# Altium schematic symbol library ctrl_V1.0.SCHLIB: 49 symbols
Pins are listed as number, name and electrical type; pins without a type are passive.

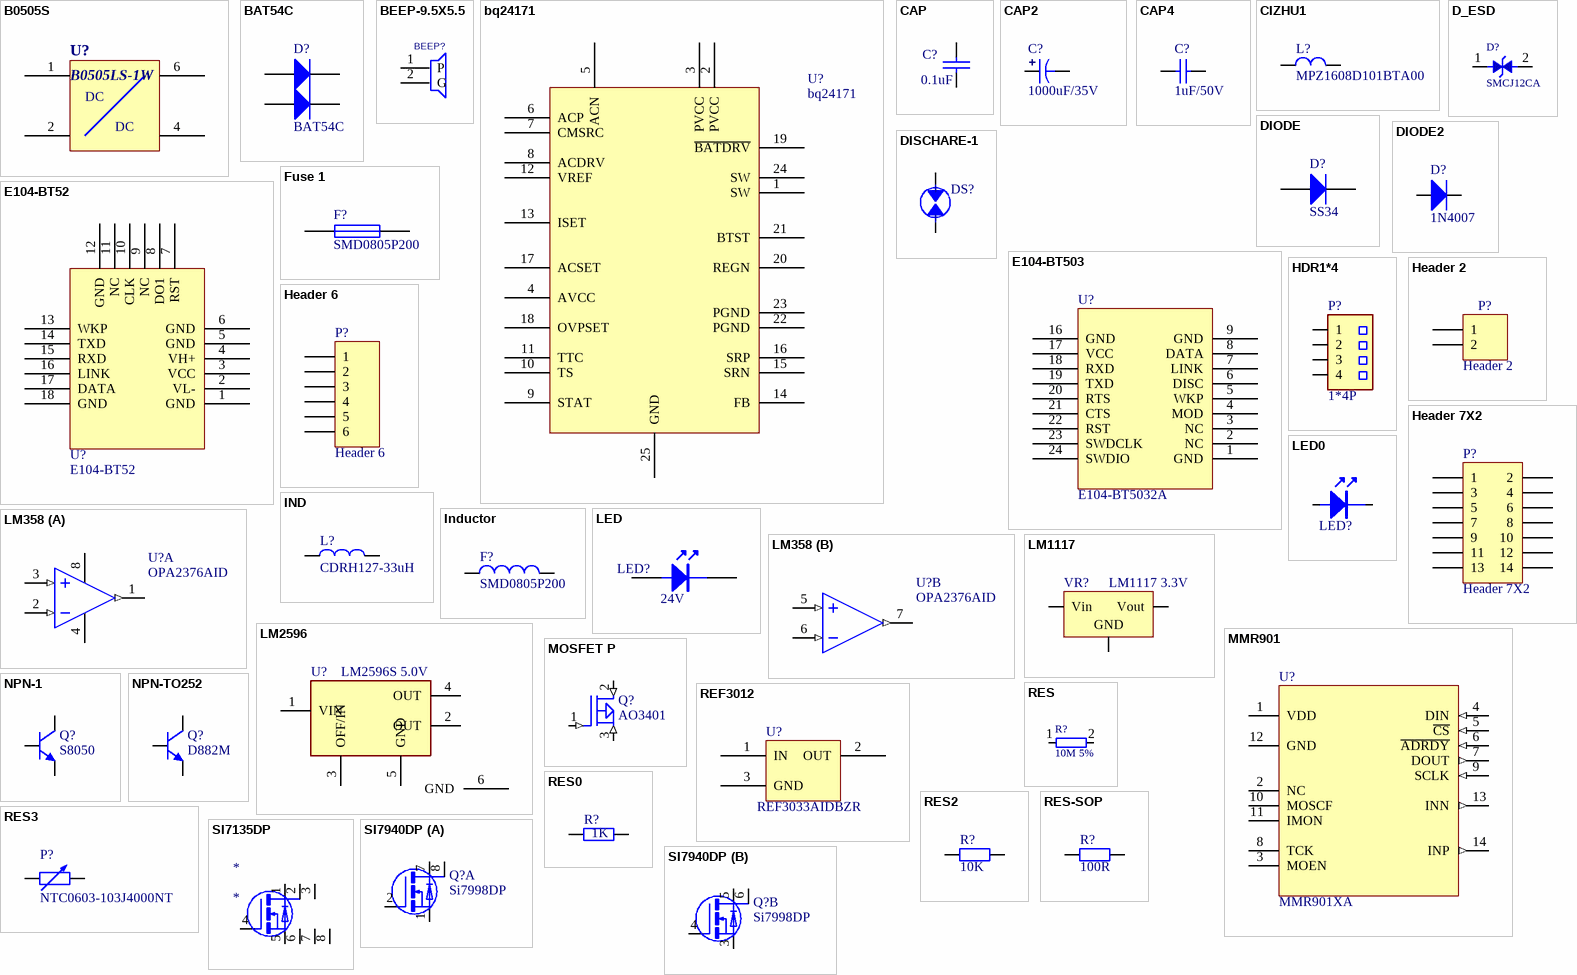
[diagram p0: symbols B0505S to SI7940DP]

## B0505S
designator U?, comment B0505LS-1W
footprint HKSXXXXB-1W
pins: 1, 2, 4, 6
text: DC

## BAT54C
designator D?
footprint SOT23-3
pins: 1 A, 2 A, 3 K, 3 K

## BEEP-9.5X5.5
designator BEEP?  (value not drawn)
PCB DECAL: BEEP-9.5X5.5
footprint BEEP-9.5X5.5 (Footprint not found)
pins: 1 P, 2 G

## bq24171
designator U?
footprint bq24171
pins: 1 SW, 2 PVCC, 3 PVCC, 4 AVCC, 5 ACN, 6 ACP, 7 CMSRC, 8 ACDRV, 9 STAT, 10 TS, 11 TTC, 12 VREF, 13 ISET, 14 FB, 15 SRN, 16 SRP, 17 ACSET, 18 OVPSET, 19 ~{BATDRV}, 20 REGN, 21 BTST, 22 PGND, 23 PGND, 24 SW, 25 GND

## CAP
designator C?, comment 0.1uF
Capacitor
footprint 0603C
pins: 1, 2

## CAP2
designator C?, comment 1000uF/35V
电解电容
footprint 10*16
footprint RB-.1/.3 (47uF 100uF 220uF 470uF)
footprint RB-.2/.4 (1000uF)
footprint RB-.3/.6
footprint SMD-3528-21 (Molded Capacitor, 2-Leads, Body 3.5x2.2mm, IPC Medium Density)
footprint SMD-7343-31 (Molded Capacitor, 2-Leads, Body 7.2x4.2mm, IPC Medium Density)
footprint SMD-3216-10 (钽电容 0805大小 耐压10V 最大10uF)
pins: 1, 2

## CAP4
designator C?, comment 1uF/50V
贴片电容 20%
footprint SMD-0805C (0805贴片电容)
footprint SMD-0603C
pins: 1, 2

## CIZHU1
designator L?, comment MPZ1608D101BTA00
磁珠电感 100R 100MHz
footprint SMD-0805 (贴片电阻)
footprint SMD-0603
pins: 1, 2

## D_ESD
designator D?, comment SMCJ12CA
footprint SMC (DO-214-AB/SMC; 2 C-Bend Leads; Body 7.9 x 5.9 mm, inc. leads (LxW))
pins: 1, 2

## DIODE
designator D?, comment SS34
footprint SMA
footprint LL-34
pins: 1 A, 2 K

## DIODE2
designator D?, comment 1N4007
二极管 M7
footprint SOD-123
footprint DO-214-AC
pins: 1 A, 2 K

## DISCHARE-1
designator DS?, comment UN1812-90CSMD  (value not drawn)
气体放电管 90V
footprint SMD-1812 (贴片电阻)
pins: 1, 2

## E104-BT52
designator U?
footprint E104-BT52 (Footprint not found)
pins: 1 GND, 2 VL-, 3 VCC, 4 VH+, 5 GND, 6 GND, 7 RST, 8 DO1, 9 NC, 10 CLK, 11 NC, 12 GND, 13 WKP, 14 TXD, 15 RXD, 16 LINK, 17 DATA, 18 GND

## E104-BT503
designator U?, comment E104-BT5032A
E104-BT503
footprint E104-BT503 (Footprint not found)
pins: 1 GND, 2 NC, 3 NC, 4 MOD, 5 WKP, 6 DISC, 7 LINK, 8 DATA, 9 GND, 16 GND, 17 VCC, 18 RXD, 19 TXD, 20 RTS, 21 CTS, 22 RST, 23 SWDCLK, 24 SWDIO

## Fuse 1
designator F?, comment SMD0805P200
Fuse; Published: 8-Jun-2000; LatestRevisionDate: 17-Jul-2002; LatestRevisionNote: Re-released for DXP Platform.; PackageReference: PIN-W2/E2.8; Publisher: Altium Limited; PackageDescription: Thru-Hole; 2 Leads
footprint 0805R
simulation model FUSE (Spice Subcircuit)
pins: 1, 2

## HDR1*4
designator P?, comment 1*4P
footprint 4X2.54MMW
pins: 1, 2, 3, 4

## Header 2
designator P?
Header, 2-Pin; LatestRevisionDate: 17-Jul-2002; LatestRevisionNote: Re-released for DXP Platform.; Publisher: Altium Limited
footprint 2X2.54MMw
signal-integrity model Connector
pins: 1, 2

## Header 6
designator P?
Header, 6-Pin; LatestRevisionDate: 17-Jul-2002; LatestRevisionNote: Re-released for DXP Platform.; Publisher: Altium Limited
footprint HDR1X6 (Connector; Header; 6 Position)
signal-integrity model Connector
pins: 1, 2, 3, 4, 5, 6

## Header 7X2
designator P?
Header, 7-Pin, Dual row; LatestRevisionDate: 17-Jul-2002; LatestRevisionNote: Re-released for DXP Platform.; Publisher: Altium Limited
footprint HDR2X7 (Connector; Header; 7x2 Position)
signal-integrity model Connector
pins: 1, 2, 3, 4, 5, 6, 7, 8, 9, 10, 11, 12, 13, 14

## IND
designator L?, comment CDRH127-33uH
footprint IND-8*12
footprint CDRH-127
pins: 1, 2

## Inductor
designator F?, comment SMD0805P200
Inductor; Code_IEC: 1005; Value: 10mH; Published: 8-Jun-2000; LatestRevisionDate: 29-May-2009; LatestRevisionNote: IPC-7351 Footprint Added.; PackageReference: 0402-A; Publisher: Altium Limited; PackageDescription: Chip Inductor; Code_JEITA: 0402
footprint 0805r
footprint INDC1608L (Chip Inductor, Body 1.6x0.8mm, IPC High Density)
footprint 2029 (Chip Inductor, Body 2.0x1.2mm, IPC High Density)
footprint 0603 (Chip Inductor, Body 0.6x0.3mm, IPC High Density)
footprint INDC3216 (Chip Inductor, Body 3.2x1.6mm, IPC High Density)
footprint INDC4532 (Chip Inductor, Body 4.5x3.2mm, IPC High Density)
simulation model INDUCTOR (Inductor)
signal-integrity model Inductor
pins: 1, 2

## LED
designator LED?, comment 24V
footprint 0603LED
pins: 1, 2

## LED0
designator LED?, comment 蓝光 3528  (value not drawn)
LED 3528 蓝
footprint SMD-0603D (贴片二极管)
pins: 1, 2

## LM358
designator U?, comment OPA2376AID
运放
footprint SOIC-8 (中体积贴片)
part A pins: 1 OUT1 (out), 2 IN1- (in), 3 IN1+ (in), 4 V- (power), 8 V+ (power)
part B pins: 5 IN2+ (in), 6 IN2- (in), 7 OUT2 (out)

## LM1117
designator VR?, comment LM1117 3.3V
三端稳压器
footprint SOT223
pins: 1 GND, 2 Vout, 3 Vin

## LM2596
designator U?, comment LM2596S 5.0V
footprint TO-263-5
pins: 1 VIN, 2 OUT, 3 OFF/IN, 4 OUT, 5 GND, 6 GND

## MMR901
designator U?, comment MMR901XA
压力传感器
footprint MMR901XA (传感器)
pins: 1 VDD (power), 2 NC, 3 MOEN, 4 DIN (in), 5 ~{CS} (in), 6 ~{ADRDY} (in), 7 DOUT (out), 8 TCK, 9 SCLK (in), 10 MOSCF, 11 IMON, 12 GND (power), 13 INN (out), 14 INP (out)

## MOSFET P
designator Q?, comment AO3401
MOSFET P
footprint SOT-23
pins: 1 G (in), 2 D (in), 3 S (in)
2 alternate drawings of the same symbol

## NPN-1
designator Q?, comment S8050
NPN
footprint SOT-23
pins: 1 B, 2 E, 3 C

## NPN-TO252
designator Q?, comment D882M
NPN TO252
footprint TO-252
footprint SOT-89-3 (三极管或MOS)
pins: 1 B, 2 C, 3 E

## REF3012
designator U?, comment REF3033AIDBZR
footprint SOT23-3
pins: 1 IN, 2 OUT, 3 GND

## RES
designator R?, comment 10M 5%
footprint 1206r
pins: 1, 2

## RES0
designator R?, comment 1K
贴片电阻 5%
footprint SMD-0805 (贴片电阻)
footprint SMD-1206 (贴片电阻)
footprint SMD-2010 (5.025MM 1/2W)
footprint SMD-2512 (6.432MM 1W)
footprint SMD-0603 (W1/32贴片电阻)
pins: 1, 2
2 alternate drawings of the same symbol

## RES2
designator R?, comment 10K
贴片电阻 5%
footprint SMD-0805 (2.012MM 1/8W)
footprint SMD-1206 (3.216MM 1/4W)
footprint SMD-1210 (3.225MM 1/4W)
footprint SMD-2010 (5.025MM 1/2W)
footprint SMD-2512 (6.432MM 1W)
footprint SMD-0603
pins: 1, 2

## RES3
designator P?, comment NTC0603-103J4000NT
卧贴
footprint SMD-0603 (W1/32贴片电阻)
pins: 1, 2
2 alternate drawings of the same symbol

## RES-SOP
designator R?, comment 100R
贴片电阻 5%
footprint SMD-0805 (2.012MM 1/8W)
footprint SMD-1206 (3.216MM 1/4W)
footprint SMD-1210 (3.225MM 1/4W)
footprint SMD-2010 (5.025MM 1/2W)
footprint SMD-2512 (6.432MM 1W)
footprint SMD-0603 (W1/32贴片电阻)
footprint SMD-0402 (R)
pins: 1, 2

## SI7135DP
designator *
pins: 1 S, 2 S, 3 S, 4 G1, 5 D, 6 D, 7 D, 8 D

## SI7940DP
designator Q?, comment Si7998DP
footprint Si7998DP
part A pins: 1 S1, 2 G1, 7 D1, 8 D1
part B pins: 3 S2, 4 G2, 5 D2, 6 D2

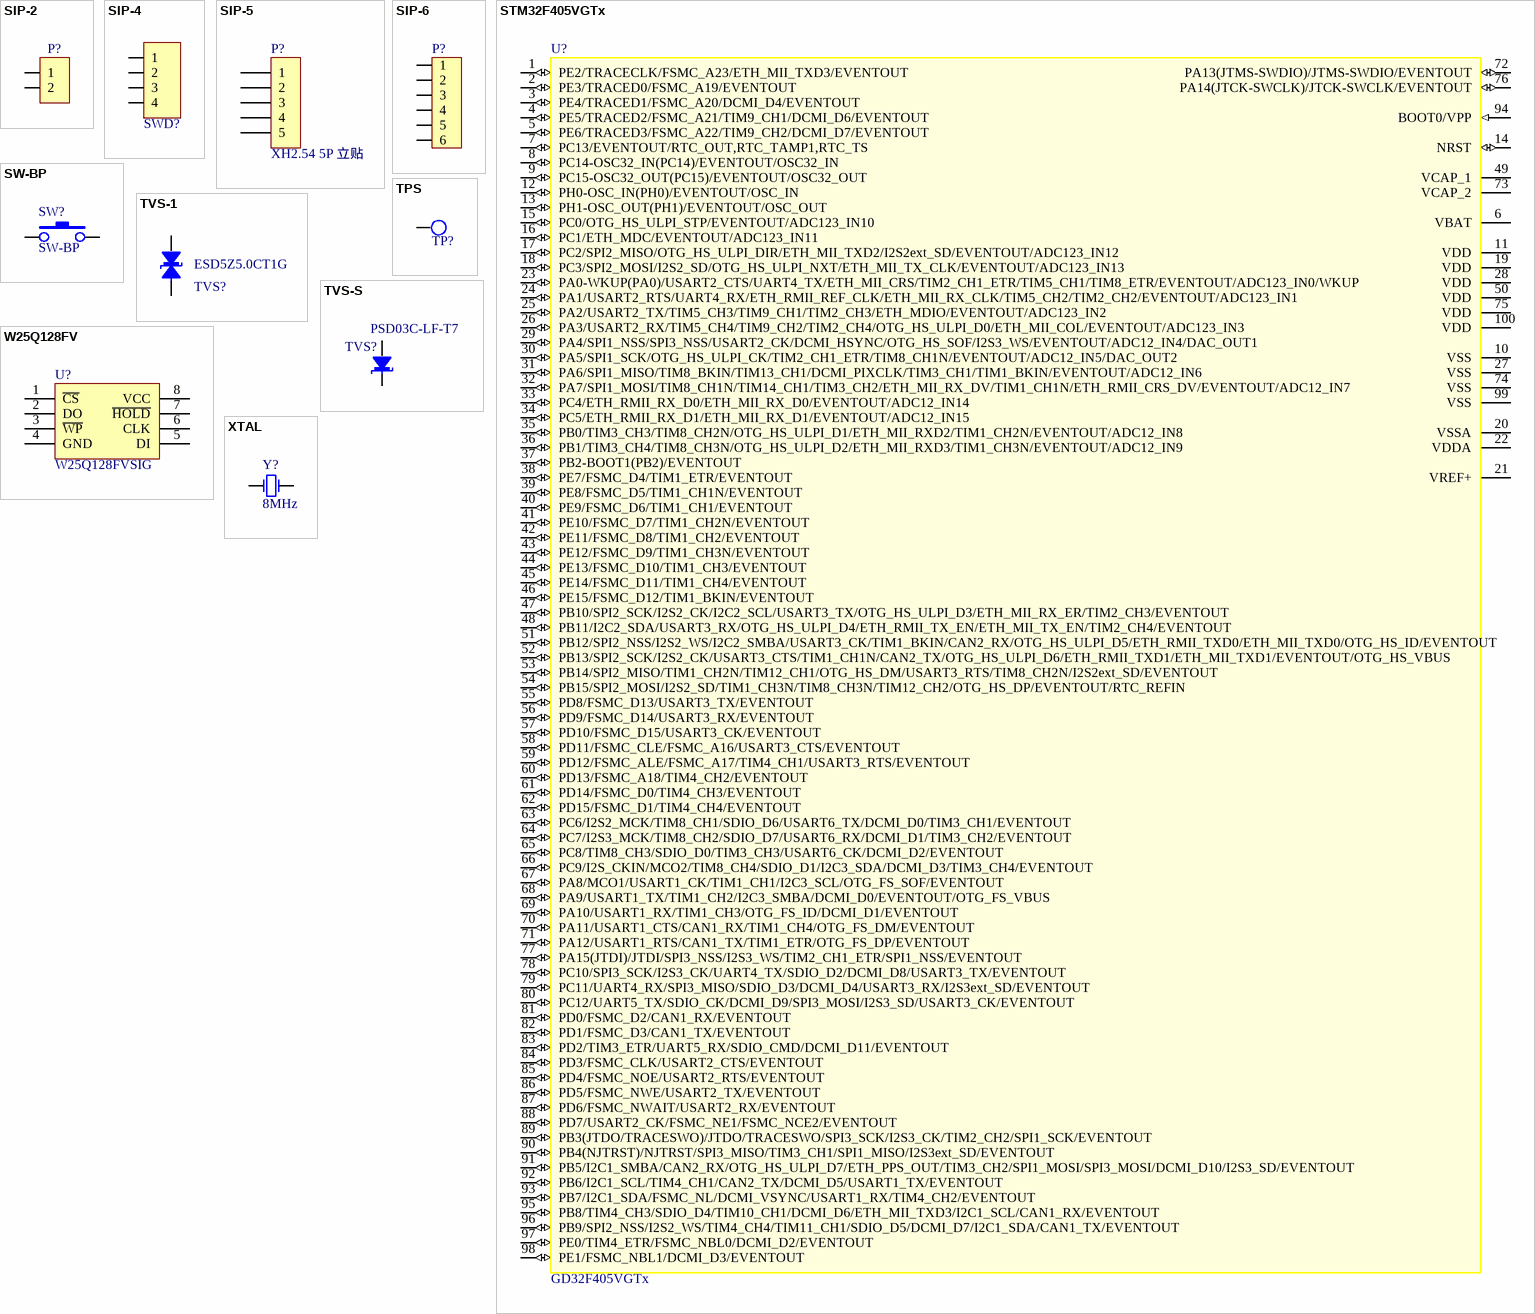
[diagram p1: symbols SIP-2 to XTAL]

## SIP-2
designator P?, comment VH2.54-2P  (value not drawn)
2.54mm- 2P立贴
footprint 2X2.54MMw
footprint KF129-2 (插座KF129-0.5MM)
pins: 1, 2

## SIP-4
designator SWD?, comment SIP-4 (NC)  (value not drawn)
ISP 下载
footprint SIP-4
pins: 1, 2, 3, 4

## SIP-5
designator P?, comment XH2.54 5P 立贴
心音传感器接口
footprint 5X2.54MMW
pins: 1, 2, 3, 4, 5

## SIP-6
designator P?, comment XH2.54 6P 立贴  (value not drawn)
血压计接口
footprint 6X2.54MMW
pins: 1, 2, 3, 4, 5, 6

## STM32F405VGTx
designator U?, comment GD32F405VGTx
Manufacturer: STMicroelectronics; PartNumber: STM32F405VGT6; Core: ARM Cortex-M4; D/A Converter: 2x12-bit; FLASH Size (Prog) (kB): 1024; I/Os (High Current): 82; Internal RAM Size (kB): 192; Operating Frequency(F) (Processor speed) (MHz): 168; Packing: Tray; Supply Voltage(Vcc) max (V): 3.6; Supply Voltage(Vcc) min (V): 1.8; DatasheetVersion: Rev. 4; PackageVersion: Rev. 1, 06/2013; PackageReference: LQFP100; PackageDescription: 100-Pin Low Profile Quad Flat Package, 14 x 14 mm Body, 0.5 mm Pitch; Mounting Technology: Surface Mount; ComponentLink1Description: Manufacturer URL; ComponentLink1URL: http://www.st.com/web/en/home.html; ComponentLink2Description: Datasheet; ComponentLink2URL: http://www.st.com/st-web-ui/static/active/en/resource/technical/document/datasheet/DM00037051.pdf; ComponentLink3Description: Package Specification; ComponentLink3URL: http://www.st.com/st-web-ui/static/active/en/resource/technical/document/data_brief/DM00071938.pdf
footprint STM-LQFP100_N (Thin QFP, 100-Leads, Body 14x14mm, Pitch 0.5mm, IPC Medium Density)
footprint STM-LQFP100_L (Thin QFP, 100-Leads, Body 14x14mm, Pitch 0.5mm, IPC High Density)
footprint STM-LQFP100_M (Thin QFP, 100-Leads, Body 14x14mm, Pitch 0.5mm, IPC Low Density)
footprint STM-LQFP100_V (Thin QFP, 100-Leads, Body 14x14mm, Pitch 0.5mm, ST Recommended)
pins: 1 PE2/TRACECLK/FSMC_A23/ETH_MII_TXD3/EVENTOUT (io), 2 PE3/TRACED0/FSMC_A19/EVENTOUT (io), 3 PE4/TRACED1/FSMC_A20/DCMI_D4/EVENTOUT (io), 4 PE5/TRACED2/FSMC_A21/TIM9_CH1/DCMI_D6/EVENTOUT (io), 5 PE6/TRACED3/FSMC_A22/TIM9_CH2/DCMI_D7/EVENTOUT (io), 6 VBAT (power), 7 PC13/EVENTOUT/RTC_OUT,RTC_TAMP1,RTC_TS (io), 8 PC14-OSC32_IN(PC14)/EVENTOUT/OSC32_IN (io), 9 PC15-OSC32_OUT(PC15)/EVENTOUT/OSC32_OUT (io), 10 VSS (power), 11 VDD (power), 12 PH0-OSC_IN(PH0)/EVENTOUT/OSC_IN (io), 13 PH1-OSC_OUT(PH1)/EVENTOUT/OSC_OUT (io), 14 NRST (io), 15 PC0/OTG_HS_ULPI_STP/EVENTOUT/ADC123_IN10 (io), 16 PC1/ETH_MDC/EVENTOUT/ADC123_IN11 (io), 17 PC2/SPI2_MISO/OTG_HS_ULPI_DIR/ETH_MII_TXD2/I2S2ext_SD/EVENTOUT/ADC123_IN12 (io), 18 PC3/SPI2_MOSI/I2S2_SD/OTG_HS_ULPI_NXT/ETH_MII_TX_CLK/EVENTOUT/ADC123_IN13 (io), 19 VDD (power), 20 VSSA (power), 21 VREF+ (power), 22 VDDA (power), 23 PA0-WKUP(PA0)/USART2_CTS/UART4_TX/ETH_MII_CRS/TIM2_CH1_ETR/TIM5_CH1/TIM8_ETR/EVENTOUT/ADC123_IN0/WKUP (io), 24 PA1/USART2_RTS/UART4_RX/ETH_RMII_REF_CLK/ETH_MII_RX_CLK/TIM5_CH2/TIM2_CH2/EVENTOUT/ADC123_IN1 (io), 25 PA2/USART2_TX/TIM5_CH3/TIM9_CH1/TIM2_CH3/ETH_MDIO/EVENTOUT/ADC123_IN2 (io), 26 PA3/USART2_RX/TIM5_CH4/TIM9_CH2/TIM2_CH4/OTG_HS_ULPI_D0/ETH_MII_COL/EVENTOUT/ADC123_IN3 (io), 27 VSS (power), 28 VDD (power), 29 PA4/SPI1_NSS/SPI3_NSS/USART2_CK/DCMI_HSYNC/OTG_HS_SOF/I2S3_WS/EVENTOUT/ADC12_IN4/DAC_OUT1 (io), 30 PA5/SPI1_SCK/OTG_HS_ULPI_CK/TIM2_CH1_ETR/TIM8_CH1N/EVENTOUT/ADC12_IN5/DAC_OUT2 (io), 31 PA6/SPI1_MISO/TIM8_BKIN/TIM13_CH1/DCMI_PIXCLK/TIM3_CH1/TIM1_BKIN/EVENTOUT/ADC12_IN6 (io), 32 PA7/SPI1_MOSI/TIM8_CH1N/TIM14_CH1/TIM3_CH2/ETH_MII_RX_DV/TIM1_CH1N/ETH_RMII_CRS_DV/EVENTOUT/ADC12_IN7 (io), 33 PC4/ETH_RMII_RX_D0/ETH_MII_RX_D0/EVENTOUT/ADC12_IN14 (io), 34 PC5/ETH_RMII_RX_D1/ETH_MII_RX_D1/EVENTOUT/ADC12_IN15 (io), 35 PB0/TIM3_CH3/TIM8_CH2N/OTG_HS_ULPI_D1/ETH_MII_RXD2/TIM1_CH2N/EVENTOUT/ADC12_IN8 (io), 36 PB1/TIM3_CH4/TIM8_CH3N/OTG_HS_ULPI_D2/ETH_MII_RXD3/TIM1_CH3N/EVENTOUT/ADC12_IN9 (io), 37 PB2-BOOT1(PB2)/EVENTOUT (io), 38 PE7/FSMC_D4/TIM1_ETR/EVENTOUT (io), 39 PE8/FSMC_D5/TIM1_CH1N/EVENTOUT (io), 40 PE9/FSMC_D6/TIM1_CH1/EVENTOUT (io), 41 PE10/FSMC_D7/TIM1_CH2N/EVENTOUT (io), 42 PE11/FSMC_D8/TIM1_CH2/EVENTOUT (io), 43 PE12/FSMC_D9/TIM1_CH3N/EVENTOUT (io), 44 PE13/FSMC_D10/TIM1_CH3/EVENTOUT (io), 45 PE14/FSMC_D11/TIM1_CH4/EVENTOUT (io), 46 PE15/FSMC_D12/TIM1_BKIN/EVENTOUT (io), 47 PB10/SPI2_SCK/I2S2_CK/I2C2_SCL/USART3_TX/OTG_HS_ULPI_D3/ETH_MII_RX_ER/TIM2_CH3/EVENTOUT (io), 48 PB11/I2C2_SDA/USART3_RX/OTG_HS_ULPI_D4/ETH_RMII_TX_EN/ETH_MII_TX_EN/TIM2_CH4/EVENTOUT (io), 49 VCAP_1 (power), 50 VDD (power), 51 PB12/SPI2_NSS/I2S2_WS/I2C2_SMBA/USART3_CK/TIM1_BKIN/CAN2_RX/OTG_HS_ULPI_D5/ETH_RMII_TXD0/ETH_MII_TXD0/OTG_HS_ID/EVENTOUT (io), 52 PB13/SPI2_SCK/I2S2_CK/USART3_CTS/TIM1_CH1N/CAN2_TX/OTG_HS_ULPI_D6/ETH_RMII_TXD1/ETH_MII_TXD1/EVENTOUT/OTG_HS_VBUS (io), 53 PB14/SPI2_MISO/TIM1_CH2N/TIM12_CH1/OTG_HS_DM/USART3_RTS/TIM8_CH2N/I2S2ext_SD/EVENTOUT (io), 54 PB15/SPI2_MOSI/I2S2_SD/TIM1_CH3N/TIM8_CH3N/TIM12_CH2/OTG_HS_DP/EVENTOUT/RTC_REFIN (io), 55 PD8/FSMC_D13/USART3_TX/EVENTOUT (io), 56 PD9/FSMC_D14/USART3_RX/EVENTOUT (io), 57 PD10/FSMC_D15/USART3_CK/EVENTOUT (io), 58 PD11/FSMC_CLE/FSMC_A16/USART3_CTS/EVENTOUT (io), 59 PD12/FSMC_ALE/FSMC_A17/TIM4_CH1/USART3_RTS/EVENTOUT (io), 60 PD13/FSMC_A18/TIM4_CH2/EVENTOUT (io), 61 PD14/FSMC_D0/TIM4_CH3/EVENTOUT (io), 62 PD15/FSMC_D1/TIM4_CH4/EVENTOUT (io), 63 PC6/I2S2_MCK/TIM8_CH1/SDIO_D6/USART6_TX/DCMI_D0/TIM3_CH1/EVENTOUT (io), 64 PC7/I2S3_MCK/TIM8_CH2/SDIO_D7/USART6_RX/DCMI_D1/TIM3_CH2/EVENTOUT (io), 65 PC8/TIM8_CH3/SDIO_D0/TIM3_CH3/USART6_CK/DCMI_D2/EVENTOUT (io), 66 PC9/I2S_CKIN/MCO2/TIM8_CH4/SDIO_D1/I2C3_SDA/DCMI_D3/TIM3_CH4/EVENTOUT (io), 67 PA8/MCO1/USART1_CK/TIM1_CH1/I2C3_SCL/OTG_FS_SOF/EVENTOUT (io), 68 PA9/USART1_TX/TIM1_CH2/I2C3_SMBA/DCMI_D0/EVENTOUT/OTG_FS_VBUS (io), 69 PA10/USART1_RX/TIM1_CH3/OTG_FS_ID/DCMI_D1/EVENTOUT (io), 70 PA11/USART1_CTS/CAN1_RX/TIM1_CH4/OTG_FS_DM/EVENTOUT (io), 71 PA12/USART1_RTS/CAN1_TX/TIM1_ETR/OTG_FS_DP/EVENTOUT (io), 72 PA13(JTMS-SWDIO)/JTMS-SWDIO/EVENTOUT (io), 73 VCAP_2 (power), 74 VSS (power), 75 VDD (power), 76 PA14(JTCK-SWCLK)/JTCK-SWCLK/EVENTOUT (io), 77 PA15(JTDI)/JTDI/SPI3_NSS/I2S3_WS/TIM2_CH1_ETR/SPI1_NSS/EVENTOUT (io), 78 PC10/SPI3_SCK/I2S3_CK/UART4_TX/SDIO_D2/DCMI_D8/USART3_TX/EVENTOUT (io), 79 PC11/UART4_RX/SPI3_MISO/SDIO_D3/DCMI_D4/USART3_RX/I2S3ext_SD/EVENTOUT (io), 80 PC12/UART5_TX/SDIO_CK/DCMI_D9/SPI3_MOSI/I2S3_SD/USART3_CK/EVENTOUT (io), 81 PD0/FSMC_D2/CAN1_RX/EVENTOUT (io), 82 PD1/FSMC_D3/CAN1_TX/EVENTOUT (io), 83 PD2/TIM3_ETR/UART5_RX/SDIO_CMD/DCMI_D11/EVENTOUT (io), 84 PD3/FSMC_CLK/USART2_CTS/EVENTOUT (io), 85 PD4/FSMC_NOE/USART2_RTS/EVENTOUT (io), 86 PD5/FSMC_NWE/USART2_TX/EVENTOUT (io), 87 PD6/FSMC_NWAIT/USART2_RX/EVENTOUT (io), 88 PD7/USART2_CK/FSMC_NE1/FSMC_NCE2/EVENTOUT (io), 89 PB3(JTDO/TRACESWO)/JTDO/TRACESWO/SPI3_SCK/I2S3_CK/TIM2_CH2/SPI1_SCK/EVENTOUT (io), 90 PB4(NJTRST)/NJTRST/SPI3_MISO/TIM3_CH1/SPI1_MISO/I2S3ext_SD/EVENTOUT (io), 91 PB5/I2C1_SMBA/CAN2_RX/OTG_HS_ULPI_D7/ETH_PPS_OUT/TIM3_CH2/SPI1_MOSI/SPI3_MOSI/DCMI_D10/I2S3_SD/EVENTOUT (io), 92 PB6/I2C1_SCL/TIM4_CH1/CAN2_TX/DCMI_D5/USART1_TX/EVENTOUT (io), 93 PB7/I2C1_SDA/FSMC_NL/DCMI_VSYNC/USART1_RX/TIM4_CH2/EVENTOUT (io), 94 BOOT0/VPP (in), 95 PB8/TIM4_CH3/SDIO_D4/TIM10_CH1/DCMI_D6/ETH_MII_TXD3/I2C1_SCL/CAN1_RX/EVENTOUT (io), 96 PB9/SPI2_NSS/I2S2_WS/TIM4_CH4/TIM11_CH1/SDIO_D5/DCMI_D7/I2C1_SDA/CAN1_TX/EVENTOUT (io), 97 PE0/TIM4_ETR/FSMC_NBL0/DCMI_D2/EVENTOUT (io), 98 PE1/FSMC_NBL1/DCMI_D3/EVENTOUT (io), 99 VSS (power), 100 VDD (power)

## SW-BP
designator SW?
3*6*3.5侧贴按键(编带)
footprint KEY_4X4 (KEY_3X6)
pins: 1, 2

## TPS
designator TP?  (value not drawn)
footprint TEST_P
footprint tpd
pins: 1

## TVS-1
designator TVS?, comment ESD5Z5.0CT1G
ESD二极管
footprint SOD-523 (贴片二极管)
pins: 1 A, 2 B

## TVS-S
designator TVS?, comment PSD03C-LF-T7
单向TVS
footprint SOD-523 (贴片二极管)
footprint SOD-123
footprint SOD-323 (贴片二极管)
pins: 1 A, 2 B

## W25Q128FV
designator U?, comment W25Q128FVSIG
footprint SO-8W
pins: 1 ~{CS}, 2 DO, 3 ~{WP}, 4 GND, 5 DI, 6 CLK, 7 ~{HOLD}, 8 VCC

## XTAL
designator Y?, comment 8MHz
3225 贴片晶振
footprint XTAL-3225-2 (3225晶振两脚)
footprint XTAL-5032 (Molded Capacitor, 2-Leads, Body 5.08x3.28mm, IPC Medium Density)
footprint XTAL-3225-2 (3225晶振两脚)
pins: 1 OSC1, 2 OSC2